# Altium footprint library myLib.PcbLib: 6 footprints
Each footprint in its own frame and in the unit in brackets; x right, y up, seen from the top. Pads: shape width x height; smd on the part's side, far side on the other; paste and mask are expansions set on the pad; w line width, h text height; cw(c..) or ccw(c..) is an arc to the next point about the centre after c.
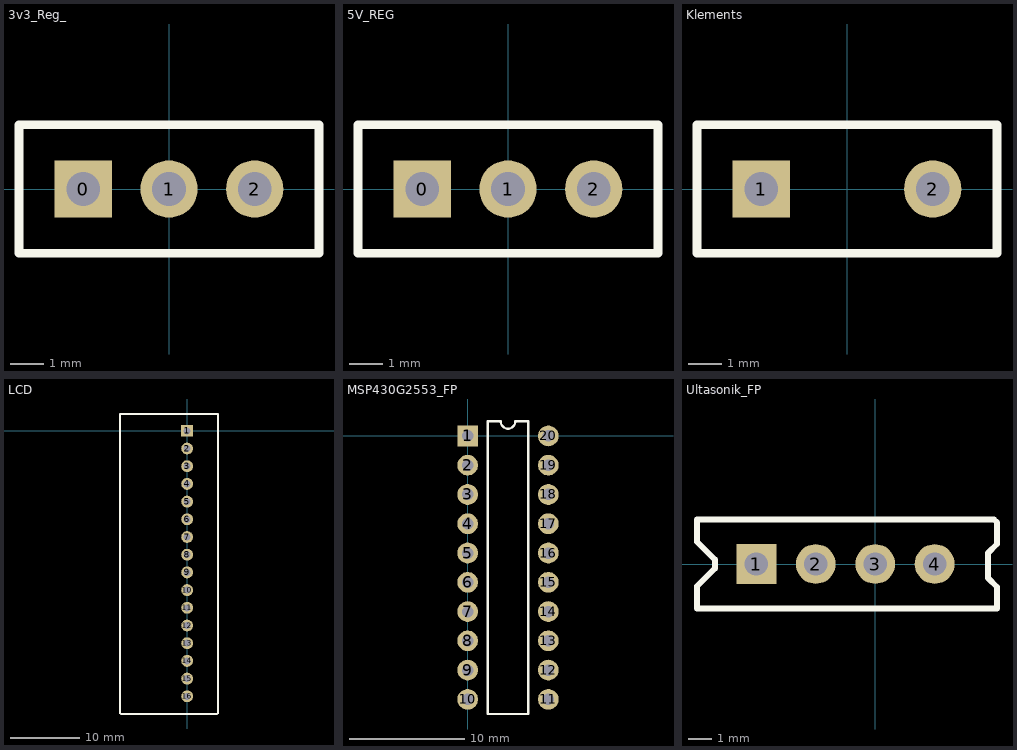
[diagram p0: the footprints below, top view; thin cyan lines are the x and y axes]

## 3v3_Reg_ [mm]
pads (3):
  rect 1.7x1.7 hole 1: 0(-2.54,0)
  round 1.7 hole 1: 1(0,0) 2(2.54,0)
Top Overlay:
  lines w0.254: -4.445,-1.905 4.445,-1.905 4.445,1.905 -4.445,1.905 -4.445,-1.905
3D body: height 6, standoff 1, extent -4.445,-1.905 4.445,1.905

## 5V_REG [mm]
pads (3):
  rect 1.7x1.7 hole 1: 0(-2.54,0)
  round 1.7 hole 1: 1(0,0) 2(2.54,0)
Top Overlay:
  lines w0.254: -4.445,-1.905 4.445,-1.905 4.445,1.905 -4.445,1.905 -4.445,-1.905
3D body: height 6, standoff 1, extent -4.445,-1.905 4.445,1.905

## Klements [mm]
pads (2):
  rect 1.7x1.7 hole 1: 1(-2.54,0)
  round 1.7 hole 1: 2(2.54,0)
Top Overlay:
  lines w0.254: -4.445,-1.905 4.445,-1.905 4.445,1.905 -4.445,1.905 -4.445,-1.905
3D body: height 6, standoff 1, extent -4.445,-1.905 4.445,1.905

## LCD [mm]
pads (16):
  rect 1.7x1.7 hole 1: 1(0,0)
  round 1.7 hole 1: 2(0,-2.54) 3(0,-5.08) 4(0,-7.62) 5(0,-10.16) 6(0,-12.7) 7(0,-15.24) 8(0,-17.78) 9(0,-20.32) 10(0,-22.86) 11(0,-25.4) 12(0,-27.94) 13(0,-30.48) 14(0,-33.02) 15(0,-35.56) 16(0,-38.1)
Top Overlay:
  lines w0.254: 1.905,2.413 4.445,2.413 4.445,-40.513 4.318,-40.64 -9.525,-40.64 -9.652,-40.513 -9.652,2.413 2.286,2.413
3D body: height 6, standoff 1, extent -9.525,-40.64 4.318,2.413

## MSP430G2553_FP [mm]
pads (20):
  rect 1.8x1.8 hole 1: 1(0,0)
  round 1.8 hole 1: 2(0,-2.54) 3(0,-5.08) 4(0,-7.62) 5(0,-10.16) 6(0,-12.7) 7(0,-15.24) 8(0,-17.78) 9(0,-20.32) 10(0,-22.86) 11(7,-22.86) 12(7,-20.32) 13(7,-17.78) 14(7,-15.24) 15(7,-12.7) 16(7,-10.16) 17(7,-7.62) 18(7,-5.08) 19(7,-2.54) 20(7,0)
Top Overlay:
  lines w0.2: 1.735,-24.13 5.265,-24.13 5.265,1.27 4.135,1.27 cw(c3.5,1.27) 2.865,1.27 1.735,1.27 1.735,-24.13

## Ultasonik_FP [mm]
pads (4):
  rect 1.7x1.7 hole 1: 1(-5.08,0)
  round 1.7 hole 1: 2(-2.54,0) 3(0,0) 4(2.54,0)
Top Overlay:
  lines w0.254: -7.62,-1.905 5.207,-1.905 5.207,-0.984 4.826,-0.603 4.826,0.476 5.207,0.857 5.207,1.778 5.08,1.905 -7.62,1.905 -7.62,0.953 -6.858,0.191 -6.858,-0.191 -7.62,-0.953 -7.62,-1.905
3D body: height 6, standoff 1, extent -7.747,-2.032 5.207,1.905